# Altium integrated library ON Semi MOSFETs.IntLib: 1097 symbols (part 7 of 26)
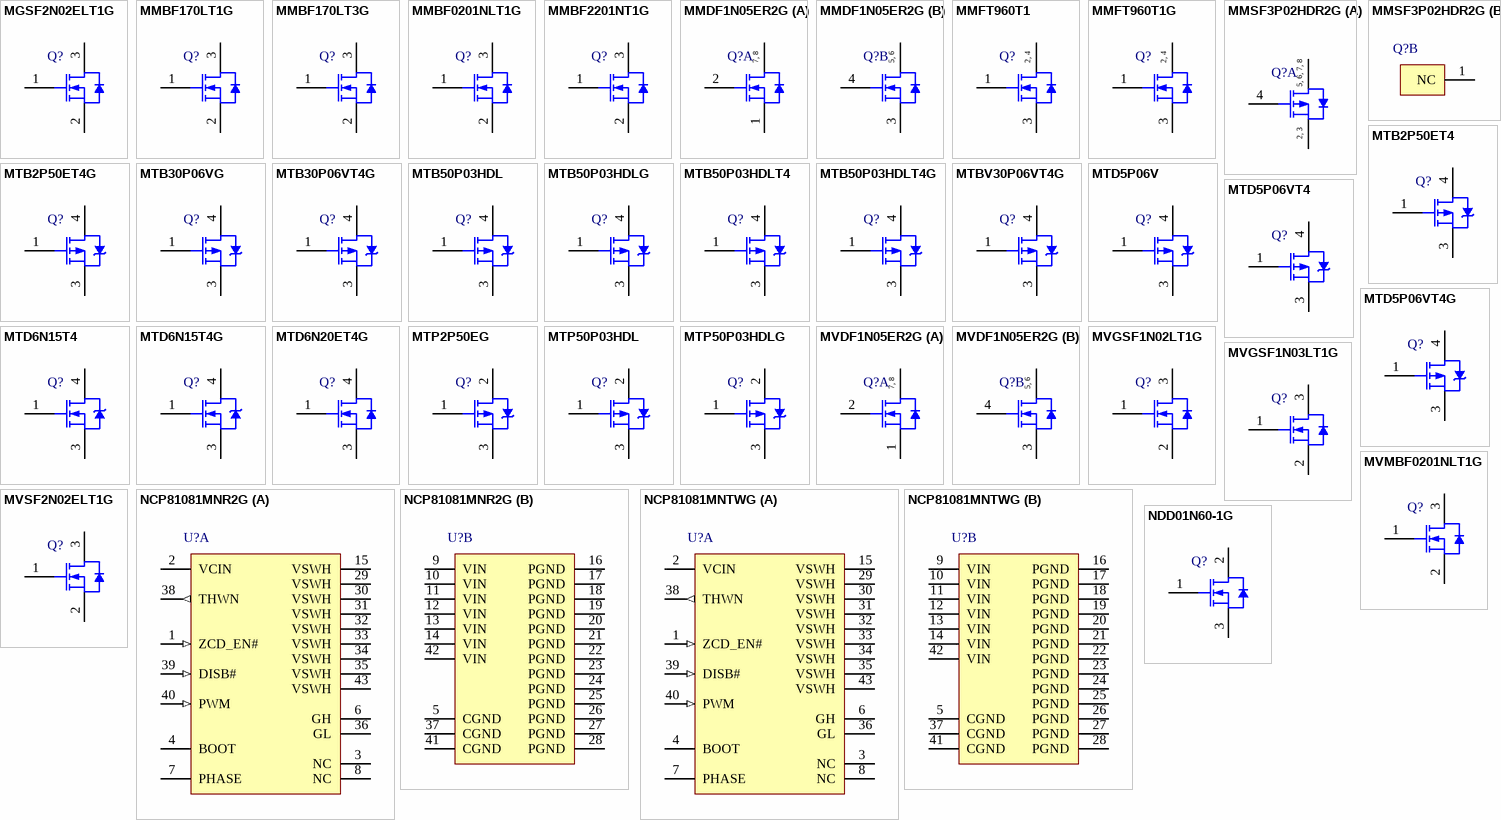
[diagram p37: symbols MGSF2N02ELT1G to NDD01N60-1G]

## MGSF2N02ELT1G
designator Q?
Power MOSFET, 2.8 A, 20 V, N-Channel, 3-Pin SOT-23, Pb-Free, Tape and Reel; Manufacturer: On Semiconductor; PartNumber: MGSF2N02ELT1G; Channel Polarity: N Channel; Ciss Typ (pF): 150; Configuration: Single; Coss Typ (pF): 130; Crss Typ (pF): 45; ID Max (A): 2.8; PD Max (W): 1.25; Qrr Typ (nC): 200; V(BR)DSS Min (V): 20; VGS Max (V): 8; VGS(th) Max (V): 1; DatasheetVersion: Rev. 3; PackageVersion: Rev. AP, 11/2009; PackageReference: SOT-23-3-318-08; PackageDescription: 3-Pin Small Outline Transistor, Body 2.92 x 1.3 mm, Pitch 0.95 mm; Supplier 1: Digi-Key; Supplier Part Number 1: MGSF2N02ELT1GOSTR-ND; Supplier 2: Digi-Key; Supplier Part Number 2: MGSF2N02ELT1GOSCT-ND; Supplier 3: Digi-Key; Supplier Part Number 3: MGSF2N02ELT1GOSDKR-ND; Supplier 4: Farnell; Supplier Part Number 4: 1453618; Supplier 5: Farnell; Supplier Part Number 5: 1453618RL; Supplier 6: Newark; Supplier Part Number 6: 83H7320; Supplier 7: Newark; Supplier Part Number 7: 09R9428; Supplier 8: Mouser; Supplier Part Number 8: 863-MGSF2N02ELT1G; Package Type: SOT-23-3; Packing: Tape and Reel; RoHS: Pb-Free; Mounting Technology: Surface Mount; ComponentLink1Description: Manufacturer URL; ComponentLink1URL: http://www.onsemi.com/; ComponentLink2Description: Datasheet; ComponentLink2URL: http://www.onsemi.cn/pub_link/Collateral/MGSF2N02EL-D.PDF; ComponentLink3Description: Package Specification; ComponentLink3URL: http://www.onsemi.cn/pub_link/Collateral/318-08.PDF
footprint ONSC-SOT-23-3-318-08_V (SOT23, 3-Leads, Body 2.92x1.3mm, Pitch 0.95mm)
pins: 1 G, 2 S, 3 D

## MMBF170LT1G
designator Q?
Power MOSFET, 500 mA, 60 V, N-Channel, 3-Pin SOT-23, Pb-Free, Tape and Reel; Manufacturer: On Semiconductor; PartNumber: MMBF170LT1G; Channel Polarity: N Channel; Configuration: Single; ID Max (A): 0.5; PD Max (W): 0.225; V(BR)DSS Min (V): 60; VGS Max (V): 20; VGS(th) Max (V): 3; DatasheetVersion: Rev. 9; PackageVersion: Rev. AP, 11/2009; PackageReference: SOT-23-3-318-08; PackageDescription: 3-Pin Small Outline Transistor, Body 2.92 x 1.3 mm, Pitch 0.95 mm; Supplier 1: Digi-Key; Supplier Part Number 1: MMBF170LT1GOSTR-ND; Supplier 2: Digi-Key; Supplier Part Number 2: MMBF170LT1GOSCT-ND; Supplier 3: Digi-Key; Supplier Part Number 3: MMBF170LT1GOSDKR-ND; Supplier 4: Farnell; Supplier Part Number 4: 1431321RL; Supplier 5: Farnell; Supplier Part Number 5: 1431321; Supplier 6: Newark; Supplier Part Number 6: 31M8850; Supplier 7: Newark; Supplier Part Number 7: 88H4781; Supplier 8: Mouser; Supplier Part Number 8: 863-MMBF170LT1G; Package Type: SOT-23-3; Packing: Tape and Reel; RoHS: Pb-Free; Mounting Technology: Surface Mount; ComponentLink1Description: Manufacturer URL; ComponentLink1URL: http://www.onsemi.com/; ComponentLink2Description: Datasheet; ComponentLink2URL: http://www.onsemi.cn/pub_link/Collateral/MMBF170LT1-D.PDF; ComponentLink3Description: Package Specification; ComponentLink3URL: http://www.onsemi.cn/pub_link/Collateral/318-08.PDF
footprint ONSC-SOT-23-3-318-08_V (SOT23, 3-Leads, Body 2.92x1.3mm, Pitch 0.95mm)
pins: 1 G, 2 S, 3 D

## MMBF170LT3G
designator Q?
Power MOSFET, 500 mA, 60 V, N-Channel, 3-Pin SOT-23, Pb-Free, Tape and Reel; Manufacturer: On Semiconductor; PartNumber: MMBF170LT3G; Channel Polarity: N Channel; Configuration: Single; ID Max (A): 0.5; PD Max (W): 0.225; V(BR)DSS Min (V): 60; VGS Max (V): 20; VGS(th) Max (V): 3; DatasheetVersion: Rev. 9; PackageVersion: Rev. AP, 11/2009; PackageReference: SOT-23-3-318-08; PackageDescription: 3-Pin Small Outline Transistor, Body 2.92 x 1.3 mm, Pitch 0.95 mm; Supplier 1: Digi-Key; Supplier Part Number 1: MMBF170LT3GOSTR-ND; Supplier 2: Digi-Key; Supplier Part Number 2: MMBF170LT3GOSCT-ND; Supplier 3: Mouser; Supplier Part Number 3: 863-MMBF170LT3G; Package Type: SOT-23-3; Packing: Tape and Reel; RoHS: Pb-Free; Mounting Technology: Surface Mount; ComponentLink1Description: Manufacturer URL; ComponentLink1URL: http://www.onsemi.com/; ComponentLink2Description: Datasheet; ComponentLink2URL: http://www.onsemi.cn/pub_link/Collateral/MMBF170LT1-D.PDF; ComponentLink3Description: Package Specification; ComponentLink3URL: http://www.onsemi.cn/pub_link/Collateral/318-08.PDF
footprint ONSC-SOT-23-3-318-08_V (SOT23, 3-Leads, Body 2.92x1.3mm, Pitch 0.95mm)
pins: 1 G, 2 S, 3 D

## MMBF0201NLT1G
designator Q?
Power MOSFET, 300 mA, 20 V, N-Channel, 3-Pin SOT-23, Pb-Free, Tape and Reel; Manufacturer: On Semiconductor; PartNumber: MMBF0201NLT1G; Channel Polarity: N Channel; Ciss Typ (pF): 45; Configuration: Single; Coss Typ (pF): 25; Crss Typ (pF): 5; PD Max (W): 0.225; V(BR)DSS Min (V): 20; VGS(th) Max (V): 2.4; DatasheetVersion: Rev. 5; PackageVersion: Rev. AP, 11/2009; PackageReference: SOT-23-3-318-08; PackageDescription: 3-Pin Small Outline Transistor, Body 2.92 x 1.3 mm, Pitch 0.95 mm; Supplier 1: Digi-Key; Supplier Part Number 1: MMBF0201NLT1GOSTR-ND; Supplier 2: Digi-Key; Supplier Part Number 2: MMBF0201NLT1GOSCT-ND; Supplier 3: Digi-Key; Supplier Part Number 3: MMBF0201NLT1GOSDKR-ND; Supplier 4: Farnell; Supplier Part Number 4: 2317893; Supplier 5: Newark; Supplier Part Number 5: 88H4779; Supplier 6: Newark; Supplier Part Number 6: 85W3163; Supplier 7: Mouser; Supplier Part Number 7: 863-MMBF0201NLT1G; Package Type: SOT-23-3; Packing: Tape and Reel; RoHS: Pb-Free; VGS Max (V): 20; Mounting Technology: Surface Mount; ComponentLink1Description: Manufacturer URL; ComponentLink1URL: http://www.onsemi.com/; ComponentLink2Description: Datasheet; ComponentLink2URL: http://www.onsemi.cn/pub_link/Collateral/MMBF0201NLT1-D.PDF; ComponentLink3Description: Package Specification; ComponentLink3URL: http://www.onsemi.cn/pub_link/Collateral/318-08.PDF
footprint ONSC-SOT-23-3-318-08_V (SOT23, 3-Leads, Body 2.92x1.3mm, Pitch 0.95mm)
pins: 1 G, 2 S, 3 D

## MMBF2201NT1G
designator Q?
Power MOSFET, 300 mA, 20 V, N-Channel, 3-Pin SOT-323, Pb-Free, Tape and Reel; Manufacturer: On Semiconductor; PartNumber: MMBF2201NT1G; Channel Polarity: N Channel; Ciss Typ (pF): 45; Configuration: Single; Coss Typ (pF): 25; Crss Typ (pF): 5; PD Max (W): 0.15; V(BR)DSS Min (V): 20; VGS(th) Max (V): 2.4; DatasheetVersion: Rev. 7; PackageVersion: Rev. N, 11/2008; PackageReference: SOT-323-3-419-04; PackageDescription: 3-Pin Small Outline Transistor, Body 2 x 1.25 mm, Pitch 0.65 mm; Supplier 1: Digi-Key; Supplier Part Number 1: MMBF2201NT1GOSTR-ND; Supplier 2: Digi-Key; Supplier Part Number 2: MMBF2201NT1GOSCT-ND; Supplier 3: Digi-Key; Supplier Part Number 3: MMBF2201NT1GOSDKR-ND; Supplier 4: Farnell; Supplier Part Number 4: 1453615; Supplier 5: Farnell; Supplier Part Number 5: 1453615RL; Supplier 6: Newark; Supplier Part Number 6: 88H4782; Supplier 7: Newark; Supplier Part Number 7: 01P0394; Supplier 8: Mouser; Supplier Part Number 8: 863-MMBF2201NT1G; Package Type: SC-70-3 / SOT-323-3; Packing: Tape and Reel; RoHS: Pb-Free; VGS Max (V): 20; Mounting Technology: Surface Mount; ComponentLink1Description: Manufacturer URL; ComponentLink1URL: http://www.onsemi.com/; ComponentLink2Description: Datasheet; ComponentLink2URL: http://www.onsemi.cn/pub_link/Collateral/MMBF2201NT1-D.PDF; ComponentLink3Description: Package Specification; ComponentLink3URL: http://www.onsemi.com/pub_link/Collateral/419-04.PDF
footprint ONSC-SOT-323-3-419-04_V (SOT23, 3-Leads, Body 2x1.25mm, Pitch 0.65mm)
pins: 1 G, 2 S, 3 D

## MMDF1N05ER2G
designator Q?
Power MOSFET, 2 A, 50 V, N-Channel, 8-Pin SOIC, Pb-Free, Tape and Reel; Manufacturer: On Semiconductor; PartNumber: MMDF1N05ER2G; Channel Polarity: N Channel; Ciss Typ (pF): 330; Configuration: Dual; Coss Typ (pF): 160; Crss Typ (pF): 50; ID Max (A): 2; VGS Max (V): 20; VGS(th) Max (V): 3; DatasheetVersion: Rev. 11; PackageVersion: Rev. AK, 02/2011; PackageReference: SOIC-8-751-07; PackageDescription: 8-Pin Small Outline Integrated Circuit, Body 4.9 x 3.9 mm, Pitch 1.27 mm; Package Type: SOIC-8; Packing: Tape and Reel; PD Max (W): 2; RoHS: Pb-Free; V(BR)DSS Min (V): 50; Mounting Technology: Surface Mount; ComponentLink1Description: Manufacturer URL; ComponentLink1URL: http://www.onsemi.com/; ComponentLink2Description: Datasheet; ComponentLink2URL: http://www.onsemi.cn/pub_link/Collateral/MMDF1N05E-D.PDF; ComponentLink3Description: Package Specification; ComponentLink3URL: http://www.onsemi.com/pub_link/Collateral/751-07.PDF
footprint ONSC-SOIC-8-751-07_V (SOIC, 8-Leads, Body 4.9x3.9mm, Pitch 1.27mm)
part A pins: 1 S1, 2 G1, 7 D1, 8 D1
part B pins: 3 S2, 4 G2, 5 D2, 6 D2
part A text: 7, 8
part B text: 5, 6

## MMFT960T1
designator Q?
Power MOSFET, 300 mA, 60 V, N-Channel, 4-Pin SOT-223, Tape and Reel; Manufacturer: On Semiconductor; PartNumber: MMFT960T1; Channel Polarity: N Channel; Ciss Typ (pF): 65; Configuration: Single; Coss Typ (pF): 33; Crss Typ (pF): 7; ID Max (A): 0.3; PD Max (W): 0.8; V(BR)DSS Min (V): 60; VGS Max (V): 30; VGS(th) Max (V): 3.5; DatasheetVersion: Rev. 5; PackageVersion: Rev. N, 08/2009; PackageReference: SOT-223-4-318E-04; PackageDescription: 4-Pin Small Outline Transistor, Body 6.5 x 3.5 mm, Pitch 2.3 mm; Package Type: SOT-223-4 / TO-261-4; Packing: Tape and Reel; Mounting Technology: Surface Mount; ComponentLink1Description: Manufacturer URL; ComponentLink1URL: http://www.onsemi.com/; ComponentLink2Description: Datasheet; ComponentLink2URL: http://www.onsemi.cn/pub_link/Collateral/MMFT960T1-D.PDF; ComponentLink3Description: Package Specification; ComponentLink3URL: http://www.onsemi.com/pub_link/Collateral/318E-04.PDF
footprint ONSC-SOT-223-4-318E-04_V (SOT223, 4-Leads, Body 6.5x3.5mm, Pitch 2.3mm)
pins: 1 G, 2 D, 3 S, 4 D
text: 2, 4

## MMFT960T1G
designator Q?
Power MOSFET, 300 mA, 60 V, N-Channel, 4-Pin SOT-223, Pb-Free, Tape and Reel; Manufacturer: On Semiconductor; PartNumber: MMFT960T1G; Channel Polarity: N Channel; Ciss Typ (pF): 65; Configuration: Single; Coss Typ (pF): 33; Crss Typ (pF): 7; ID Max (A): 0.3; PD Max (W): 0.8; V(BR)DSS Min (V): 60; VGS Max (V): 30; VGS(th) Max (V): 3.5; DatasheetVersion: Rev. 5; PackageVersion: Rev. N, 08/2009; PackageReference: SOT-223-4-318E-04; PackageDescription: 4-Pin Small Outline Transistor, Body 6.5 x 3.5 mm, Pitch 2.3 mm; Package Type: SOT-223-4 / TO-261-4; Packing: Tape and Reel; RoHS: Pb-Free; Mounting Technology: Surface Mount; ComponentLink1Description: Manufacturer URL; ComponentLink1URL: http://www.onsemi.com/; ComponentLink2Description: Datasheet; ComponentLink2URL: http://www.onsemi.cn/pub_link/Collateral/MMFT960T1-D.PDF; ComponentLink3Description: Package Specification; ComponentLink3URL: http://www.onsemi.com/pub_link/Collateral/318E-04.PDF
footprint ONSC-SOT-223-4-318E-04_V (SOT223, 4-Leads, Body 6.5x3.5mm, Pitch 2.3mm)
pins: 1 G, 2 D, 3 S, 4 D
text: 2, 4

## MMSF3P02HDR2G
designator Q?
Power MOSFET, 3 A, 20 V, P-Channel, 8-Pin SOIC, Pb-Free, Tape and Reel; Manufacturer: On Semiconductor; PartNumber: MMSF3P02HDR2G; Channel Polarity: P Channel; Ciss Typ (pF): 1010; Configuration: Single; Coss Typ (pF): 740; Crss Typ (pF): 260; PD Max (W): 2.5; Qrr Typ (nC): 133; V(BR)DSS Min (V): 20; VGS(th) Max (V): 2; DatasheetVersion: Rev. 8; PackageVersion: Rev. AK, 02/2011; PackageReference: SOIC-8-751-07; PackageDescription: 8-Pin Small Outline Integrated Circuit, Body 4.9 x 3.9 mm, Pitch 1.27 mm; Package Type: SOIC-8; Packing: Tape and Reel; RoHS: Pb-Free; VGS Max (V): 20; Mounting Technology: Surface Mount; ComponentLink1Description: Manufacturer URL; ComponentLink1URL: http://www.onsemi.com/; ComponentLink2Description: Datasheet; ComponentLink2URL: http://www.onsemi.cn/pub_link/Collateral/MMSF3P02HD-D.PDF; ComponentLink3Description: Package Specification; ComponentLink3URL: http://www.onsemi.com/pub_link/Collateral/751-07.PDF
footprint ONSC-SOIC-8-751-07_V (SOIC, 8-Leads, Body 4.9x3.9mm, Pitch 1.27mm)
part A pins: 2 S, 3 S, 4 G, 5 D, 6 D, 7 D, 8 D
part B pins: 1 NC
part A text: 5, 6, 7, 8; 2, 3

## MTB2P50ET4
designator Q?
Power MOSFET, 2 A, 500 V, P-Channel, 3-Pin D2PAK, Tape and Reel; Manufacturer: On Semiconductor; PartNumber: MTB2P50ET4; Channel Polarity: P Channel; Ciss Typ (pF): 845; Configuration: Single; Coss Typ (pF): 100; Crss Typ (pF): 26; Qrr Typ (nC): 1920; V(BR)DSS Min (V): 500; VGS Max (V): 20; VGS(th) Max (V): 4; DatasheetVersion: Rev. 4; PackageVersion: Rev. K, 09/2008; PackageReference: D2PAK-3-418B-04; PackageDescription: 3-Pin Flange Mount, Body 9.145 x 9.97 mm, Pitch 2.54 mm; Package Type: D2PAK-3; Packing: Tape and Reel; Mounting Technology: Surface Mount; ComponentLink1Description: Manufacturer URL; ComponentLink1URL: http://www.onsemi.com/; ComponentLink2Description: Datasheet; ComponentLink2URL: http://www.onsemi.cn/pub_link/Collateral/MTB2P50E-D.PDF; ComponentLink3Description: Package Specification; ComponentLink3URL: http://www.onsemi.com/pub_link/Collateral/418B-04.PDF
footprint ONSC-D2PAK-3-418B-04_V (DPAK, 3-Leads, Body 9.97x9.145mm, Pitch 2.54mm)
pins: 1 G, 3 S, 4 D

## MTB2P50ET4G
designator Q?
Power MOSFET, 2 A, 500 V, P-Channel, 3-Pin D2PAK, Pb-Free, Tape and Reel; Manufacturer: On Semiconductor; PartNumber: MTB2P50ET4G; Channel Polarity: P Channel; Ciss Typ (pF): 845; Configuration: Single; Coss Typ (pF): 100; Crss Typ (pF): 26; Qrr Typ (nC): 1920; V(BR)DSS Min (V): 500; VGS Max (V): 20; VGS(th) Max (V): 4; DatasheetVersion: Rev. 4; PackageVersion: Rev. K, 09/2008; PackageReference: D2PAK-3-418B-04; PackageDescription: 3-Pin Flange Mount, Body 9.145 x 9.97 mm, Pitch 2.54 mm; Package Type: D2PAK-3; Packing: Tape and Reel; RoHS: Pb-Free; Mounting Technology: Surface Mount; ComponentLink1Description: Manufacturer URL; ComponentLink1URL: http://www.onsemi.com/; ComponentLink2Description: Datasheet; ComponentLink2URL: http://www.onsemi.cn/pub_link/Collateral/MTB2P50E-D.PDF; ComponentLink3Description: Package Specification; ComponentLink3URL: http://www.onsemi.com/pub_link/Collateral/418B-04.PDF
footprint ONSC-D2PAK-3-418B-04_V (DPAK, 3-Leads, Body 9.97x9.145mm, Pitch 2.54mm)
pins: 1 G, 3 S, 4 D

## MTB30P06VG
designator Q?
Power MOSFET, 30 A, 60 V, P-Channel, 3-Pin D2PAK, Pb-Free, Tube; Manufacturer: On Semiconductor; PartNumber: MTB30P06VG; Channel Polarity: P Channel; Ciss Typ (pF): 1562; Configuration: Single; Coss Typ (pF): 524; Crss Typ (pF): 154; Qrr Typ (nC): 965; V(BR)DSS Min (V): 60; VGS Max (V): 15; VGS(th) Max (V): 4; DatasheetVersion: Rev. 5; PackageVersion: Rev. K, 09/2008; PackageReference: D2PAK-3-418B-04; PackageDescription: 3-Pin Flange Mount, Body 9.145 x 9.97 mm, Pitch 2.54 mm; Package Type: D2PAK-3; Packing: Tube; RoHS: Pb-Free; Mounting Technology: Surface Mount; ComponentLink1Description: Manufacturer URL; ComponentLink1URL: http://www.onsemi.com/; ComponentLink2Description: Datasheet; ComponentLink2URL: http://www.onsemi.cn/pub_link/Collateral/MTB30P06V-D.PDF; ComponentLink3Description: Package Specification; ComponentLink3URL: http://www.onsemi.com/pub_link/Collateral/418B-04.PDF
footprint ONSC-D2PAK-3-418B-04_V (DPAK, 3-Leads, Body 9.97x9.145mm, Pitch 2.54mm)
pins: 1 G, 3 S, 4 D

## MTB30P06VT4G
designator Q?
Power MOSFET, 30 A, 60 V, P-Channel, 3-Pin D2PAK, Pb-Free, Tape and Reel; Manufacturer: On Semiconductor; PartNumber: MTB30P06VT4G; Channel Polarity: P Channel; Ciss Typ (pF): 1562; Configuration: Single; Coss Typ (pF): 524; Crss Typ (pF): 154; Qrr Typ (nC): 965; V(BR)DSS Min (V): 60; VGS Max (V): 15; VGS(th) Max (V): 4; DatasheetVersion: Rev. 5; PackageVersion: Rev. K, 09/2008; PackageReference: D2PAK-3-418B-04; PackageDescription: 3-Pin Flange Mount, Body 9.145 x 9.97 mm, Pitch 2.54 mm; Package Type: D2PAK-3; Packing: Tape and Reel; RoHS: Pb-Free; Mounting Technology: Surface Mount; ComponentLink1Description: Manufacturer URL; ComponentLink1URL: http://www.onsemi.com/; ComponentLink2Description: Datasheet; ComponentLink2URL: http://www.onsemi.cn/pub_link/Collateral/MTB30P06V-D.PDF; ComponentLink3Description: Package Specification; ComponentLink3URL: http://www.onsemi.com/pub_link/Collateral/418B-04.PDF
footprint ONSC-D2PAK-3-418B-04_V (DPAK, 3-Leads, Body 9.97x9.145mm, Pitch 2.54mm)
pins: 1 G, 3 S, 4 D

## MTB50P03HDL
designator Q?
Power MOSFET, 50 A, 30 V, Logic Level, P-Channel, 3-Pin D2PAK, Tube; Manufacturer: On Semiconductor; PartNumber: MTB50P03HDL; Channel Polarity: P Channel; Ciss Typ (pF): 3500; Configuration: Single; Coss Typ (pF): 1550; Crss Typ (pF): 550; Qrr Typ (nC): 246; V(BR)DSS Min (V): 30; VGS Max (V): 15; VGS(th) Max (V): 2; DatasheetVersion: Rev. 6; PackageVersion: Rev. K, 09/2008; PackageReference: D2PAK-3-418B-04; PackageDescription: 3-Pin Flange Mount, Body 9.145 x 9.97 mm, Pitch 2.54 mm; Package Type: D2PAK-3; Packing: Tube; Mounting Technology: Surface Mount; ComponentLink1Description: Manufacturer URL; ComponentLink1URL: http://www.onsemi.com/; ComponentLink2Description: Datasheet; ComponentLink2URL: http://www.onsemi.cn/pub_link/Collateral/MTB50P03HDL-D.PDF; ComponentLink3Description: Package Specification; ComponentLink3URL: http://www.onsemi.com/pub_link/Collateral/418B-04.PDF
footprint ONSC-D2PAK-3-418B-04_V (DPAK, 3-Leads, Body 9.97x9.145mm, Pitch 2.54mm)
pins: 1 G, 3 S, 4 D

## MTB50P03HDLG
designator Q?
Power MOSFET, 50 A, 30 V, Logic Level, P-Channel, 3-Pin D2PAK, Pb-Free, Tube; Manufacturer: On Semiconductor; PartNumber: MTB50P03HDLG; Channel Polarity: P Channel; Ciss Typ (pF): 3500; Configuration: Single; Coss Typ (pF): 1550; Crss Typ (pF): 550; Qrr Typ (nC): 246; V(BR)DSS Min (V): 30; VGS Max (V): 15; VGS(th) Max (V): 2; DatasheetVersion: Rev. 6; PackageVersion: Rev. K, 09/2008; PackageReference: D2PAK-3-418B-04; PackageDescription: 3-Pin Flange Mount, Body 9.145 x 9.97 mm, Pitch 2.54 mm; Package Type: D2PAK-3; Packing: Tube; RoHS: Pb-Free; Mounting Technology: Surface Mount; ComponentLink1Description: Manufacturer URL; ComponentLink1URL: http://www.onsemi.com/; ComponentLink2Description: Datasheet; ComponentLink2URL: http://www.onsemi.cn/pub_link/Collateral/MTB50P03HDL-D.PDF; ComponentLink3Description: Package Specification; ComponentLink3URL: http://www.onsemi.com/pub_link/Collateral/418B-04.PDF
footprint ONSC-D2PAK-3-418B-04_V (DPAK, 3-Leads, Body 9.97x9.145mm, Pitch 2.54mm)
pins: 1 G, 3 S, 4 D

## MTB50P03HDLT4
designator Q?
Power MOSFET, 50 A, 30 V, Logic Level, P-Channel, 3-Pin D2PAK, Tape and Reel; Manufacturer: On Semiconductor; PartNumber: MTB50P03HDLT4; Channel Polarity: P Channel; Ciss Typ (pF): 3500; Configuration: Single; Coss Typ (pF): 1550; Crss Typ (pF): 550; Qrr Typ (nC): 246; V(BR)DSS Min (V): 30; VGS Max (V): 15; VGS(th) Max (V): 2; DatasheetVersion: Rev. 6; PackageVersion: Rev. K, 09/2008; PackageReference: D2PAK-3-418B-04; PackageDescription: 3-Pin Flange Mount, Body 9.145 x 9.97 mm, Pitch 2.54 mm; Package Type: D2PAK-3; Packing: Tape and Reel; Mounting Technology: Surface Mount; ComponentLink1Description: Manufacturer URL; ComponentLink1URL: http://www.onsemi.com/; ComponentLink2Description: Datasheet; ComponentLink2URL: http://www.onsemi.cn/pub_link/Collateral/MTB50P03HDL-D.PDF; ComponentLink3Description: Package Specification; ComponentLink3URL: http://www.onsemi.com/pub_link/Collateral/418B-04.PDF
footprint ONSC-D2PAK-3-418B-04_V (DPAK, 3-Leads, Body 9.97x9.145mm, Pitch 2.54mm)
pins: 1 G, 3 S, 4 D

## MTB50P03HDLT4G
designator Q?
Power MOSFET, 50 A, 30 V, Logic Level, P-Channel, 3-Pin D2PAK, Pb-Free, Tape and Reel; Manufacturer: On Semiconductor; PartNumber: MTB50P03HDLT4G; Channel Polarity: P Channel; Ciss Typ (pF): 3500; Configuration: Single; Coss Typ (pF): 1550; Crss Typ (pF): 550; Qrr Typ (nC): 246; V(BR)DSS Min (V): 30; VGS Max (V): 15; VGS(th) Max (V): 2; DatasheetVersion: Rev. 6; PackageVersion: Rev. K, 09/2008; PackageReference: D2PAK-3-418B-04; PackageDescription: 3-Pin Flange Mount, Body 9.145 x 9.97 mm, Pitch 2.54 mm; Package Type: D2PAK-3; Packing: Tape and Reel; RoHS: Pb-Free; Mounting Technology: Surface Mount; ComponentLink1Description: Manufacturer URL; ComponentLink1URL: http://www.onsemi.com/; ComponentLink2Description: Datasheet; ComponentLink2URL: http://www.onsemi.cn/pub_link/Collateral/MTB50P03HDL-D.PDF; ComponentLink3Description: Package Specification; ComponentLink3URL: http://www.onsemi.com/pub_link/Collateral/418B-04.PDF
footprint ONSC-D2PAK-3-418B-04_V (DPAK, 3-Leads, Body 9.97x9.145mm, Pitch 2.54mm)
pins: 1 G, 3 S, 4 D

## MTBV30P06VT4G
designator Q?
Power MOSFET, 30 A, 60 V, P-Channel, 3-Pin D2PAK, Pb-Free, Tape and Reel; Manufacturer: On Semiconductor; PartNumber: MTBV30P06VT4G; Channel Polarity: P Channel; Ciss Typ (pF): 1562; Configuration: Single; Coss Typ (pF): 524; Crss Typ (pF): 154; Qrr Typ (nC): 965; V(BR)DSS Min (V): 60; VGS Max (V): 15; VGS(th) Max (V): 4; DatasheetVersion: Rev. 5; PackageVersion: Rev. K, 09/2008; PackageReference: D2PAK-3-418B-04; PackageDescription: 3-Pin Flange Mount, Body 9.145 x 9.97 mm, Pitch 2.54 mm; Package Type: D2PAK-3; Packing: Tape and Reel; RoHS: Pb-Free; Mounting Technology: Surface Mount; ComponentLink1Description: Manufacturer URL; ComponentLink1URL: http://www.onsemi.com/; ComponentLink2Description: Datasheet; ComponentLink2URL: http://www.onsemi.cn/pub_link/Collateral/MTB30P06V-D.PDF; ComponentLink3Description: Package Specification; ComponentLink3URL: http://www.onsemi.com/pub_link/Collateral/418B-04.PDF
footprint ONSC-D2PAK-3-418B-04_V (DPAK, 3-Leads, Body 9.97x9.145mm, Pitch 2.54mm)
pins: 1 G, 3 S, 4 D

## MTD5P06V
designator Q?
Power MOSFET, 5 A, 60 V P-Channel, 3-Pin DPAK, Tube; Manufacturer: On Semiconductor; PartNumber: MTD5P06V; Channel Polarity: P Channel; Ciss Typ (pF): 367; Configuration: Single; Coss Typ (pF): 140; Crss Typ (pF): 29; ID Max (A): 5; Qrr Typ (nC): 420; V(BR)DSS Min (V): 60; VGS Max (V): 15; VGS(th) Max (V): 4; DatasheetVersion: Rev. 6; PackageVersion: Rev. E, 02/2014; PackageReference: DPAK-3-369C-01; PackageDescription: 3-Pin Flange Mount, Body 6.54 x 6.095 mm, Pitch 2.29 mm; Package Type: DPAK-3; Packing: Tube; Mounting Technology: Surface Mount; ComponentLink1Description: Manufacturer URL; ComponentLink1URL: http://www.onsemi.com/; ComponentLink2Description: Datasheet; ComponentLink2URL: http://www.onsemi.cn/pub_link/Collateral/MTD5P06V-D.PDF; ComponentLink3Description: Package Specification; ComponentLink3URL: http://www.onsemi.cn/pub_link/Collateral/369C.PDF
footprint ONSC-DPAK-3-369C-01_V (DPAK, 3-Leads, Body 6.54x6.095mm, Pitch 2.29mm)
pins: 1 G, 3 S, 4 D

## MTD5P06VT4
designator Q?
Power MOSFET, 5 A, 60 V P-Channel, 3-Pin DPAK, Tape and Reel; Manufacturer: On Semiconductor; PartNumber: MTD5P06VT4; Channel Polarity: P Channel; Ciss Typ (pF): 367; Configuration: Single; Coss Typ (pF): 140; Crss Typ (pF): 29; ID Max (A): 5; Qrr Typ (nC): 420; V(BR)DSS Min (V): 60; VGS Max (V): 15; VGS(th) Max (V): 4; DatasheetVersion: Rev. 6; PackageVersion: Rev. E, 02/2014; PackageReference: DPAK-3-369C-01; PackageDescription: 3-Pin Flange Mount, Body 6.54 x 6.095 mm, Pitch 2.29 mm; Package Type: DPAK-3; Packing: Tape and Reel; Mounting Technology: Surface Mount; ComponentLink1Description: Manufacturer URL; ComponentLink1URL: http://www.onsemi.com/; ComponentLink2Description: Datasheet; ComponentLink2URL: http://www.onsemi.cn/pub_link/Collateral/MTD5P06V-D.PDF; ComponentLink3Description: Package Specification; ComponentLink3URL: http://www.onsemi.cn/pub_link/Collateral/369C.PDF
footprint ONSC-DPAK-3-369C-01_V (DPAK, 3-Leads, Body 6.54x6.095mm, Pitch 2.29mm)
pins: 1 G, 3 S, 4 D

## MTD5P06VT4G
designator Q?
Power MOSFET, 5 A, 60 V P-Channel, 3-Pin DPAK, Pb-Free, Tape and Reel; Manufacturer: On Semiconductor; PartNumber: MTD5P06VT4G; Channel Polarity: P Channel; Ciss Typ (pF): 367; Configuration: Single; Coss Typ (pF): 140; Crss Typ (pF): 29; ID Max (A): 5; Qrr Typ (nC): 420; V(BR)DSS Min (V): 60; VGS Max (V): 15; VGS(th) Max (V): 4; DatasheetVersion: Rev. 6; PackageVersion: Rev. E, 02/2014; PackageReference: DPAK-3-369C-01; PackageDescription: 3-Pin Flange Mount, Body 6.54 x 6.095 mm, Pitch 2.29 mm; Package Type: DPAK-3; Packing: Tape and Reel; RoHS: Pb-Free; Mounting Technology: Surface Mount; ComponentLink1Description: Manufacturer URL; ComponentLink1URL: http://www.onsemi.com/; ComponentLink2Description: Datasheet; ComponentLink2URL: http://www.onsemi.cn/pub_link/Collateral/MTD5P06V-D.PDF; ComponentLink3Description: Package Specification; ComponentLink3URL: http://www.onsemi.cn/pub_link/Collateral/369C.PDF
footprint ONSC-DPAK-3-369C-01_V (DPAK, 3-Leads, Body 6.54x6.095mm, Pitch 2.29mm)
pins: 1 G, 3 S, 4 D

## MTD6N15T4
designator Q?
Power Field Effect Transistor, Surface Mount, N-Channel Enhancement-Mode Silicon Gate, 3-Pin DPAK, Tape and Reel; Manufacturer: On Semiconductor; PartNumber: MTD6N15T4; Channel Polarity: N Channel; Configuration: Single; ID Max (A): 6; V(BR)DSS Min (V): 150; VGS Max (V): 20; DatasheetVersion: Rev. 5; PackageVersion: Rev. E, 02/2014; PackageReference: DPAK-3-369C-01; PackageDescription: 3-Pin Flange Mount, Body 6.54 x 6.095 mm, Pitch 2.29 mm; Package Type: DPAK-3; Packing: Tape and Reel; Mounting Technology: Surface Mount; ComponentLink1Description: Manufacturer URL; ComponentLink1URL: http://www.onsemi.com/; ComponentLink2Description: Datasheet; ComponentLink2URL: http://www.onsemi.cn/pub_link/Collateral/MTD6N15-D.PDF; ComponentLink3Description: Package Specification; ComponentLink3URL: http://www.onsemi.cn/pub_link/Collateral/369C.PDF
footprint ONSC-DPAK-3-369C-01_V (DPAK, 3-Leads, Body 6.54x6.095mm, Pitch 2.29mm)
pins: 1 G, 3 S, 4 D

## MTD6N15T4G
designator Q?
Power Field Effect Transistor, Surface Mount, N-Channel Enhancement-Mode Silicon Gate, 3-Pin DPAK, Pb-Free, Tape and Reel; Manufacturer: On Semiconductor; PartNumber: MTD6N15T4G; Channel Polarity: N Channel; Configuration: Single; ID Max (A): 6; V(BR)DSS Min (V): 150; VGS Max (V): 20; DatasheetVersion: Rev. 5; PackageVersion: Rev. E, 02/2014; PackageReference: DPAK-3-369C-01; PackageDescription: 3-Pin Flange Mount, Body 6.54 x 6.095 mm, Pitch 2.29 mm; Package Type: DPAK-3; Packing: Tape and Reel; RoHS: Pb-Free; Mounting Technology: Surface Mount; ComponentLink1Description: Manufacturer URL; ComponentLink1URL: http://www.onsemi.com/; ComponentLink2Description: Datasheet; ComponentLink2URL: http://www.onsemi.cn/pub_link/Collateral/MTD6N15-D.PDF; ComponentLink3Description: Package Specification; ComponentLink3URL: http://www.onsemi.cn/pub_link/Collateral/369C.PDF
footprint ONSC-DPAK-3-369C-01_V (DPAK, 3-Leads, Body 6.54x6.095mm, Pitch 2.29mm)
pins: 1 G, 3 S, 4 D

## MTD6N20ET4G
designator Q?
Power MOSFET, 6 A, 200 V, N-Channel, 3-Pin DPAK, Pb-Free, Tape and Reel; Manufacturer: On Semiconductor; PartNumber: MTD6N20ET4G; Channel Polarity: N Channel; Ciss Typ (pF): 342; Configuration: Single; Coss Typ (pF): 92; Crss Typ (pF): 27; Qrr Typ (nC): 740; V(BR)DSS Min (V): 200; VGS Max (V): 20; VGS(th) Max (V): 4; DatasheetVersion: Rev. 6; PackageVersion: Rev. E, 02/2014; PackageReference: DPAK-3-369C-01; PackageDescription: 3-Pin Flange Mount, Body 6.54 x 6.095 mm, Pitch 2.29 mm; Package Type: DPAK-3; Packing: Tape and Reel; RoHS: Pb-Free; Mounting Technology: Surface Mount; ComponentLink1Description: Manufacturer URL; ComponentLink1URL: http://www.onsemi.com/; ComponentLink2Description: Datasheet; ComponentLink2URL: http://www.onsemi.cn/pub_link/Collateral/MTD6N20E-D.PDF; ComponentLink3Description: Package Specification; ComponentLink3URL: http://www.onsemi.cn/pub_link/Collateral/369C.PDF
footprint ONSC-DPAK-3-369C-01_V (DPAK, 3-Leads, Body 6.54x6.095mm, Pitch 2.29mm)
pins: 1 G, 3 S, 4 D

## MTP2P50EG
designator Q?
Power MOSFET, 2 A, 500 V, P-Channel, 3-Pin TO-220, Pb-Free, Tube; Manufacturer: On Semiconductor; PartNumber: MTP2P50EG; Channel Polarity: P Channel; Ciss Typ (pF): 845; Configuration: Single; Coss Typ (pF): 100; Crss Typ (pF): 26; PD Max (W): 75; Qrr Typ (nC): 1920; V(BR)DSS Min (V): 500; VGS Max (V): 20; VGS(th) Max (V): 4; DatasheetVersion: Rev. 6; PackageVersion: Rev. AF; PackageReference: TO-220-3-221A-09_AF; PackageDescription: 3-Pin Flange Mount, Vertical Straight Lead, Body 9.97 x 4.445 mm, Pitch 2.54 mm; Package Type: TO-220-3; Packing: Tube; RoHS: Pb-Free; Mounting Technology: Through Hole; ComponentLink1Description: Manufacturer URL; ComponentLink1URL: http://www.onsemi.com/; ComponentLink2Description: Datasheet; ComponentLink2URL: http://www.onsemi.cn/pub_link/Collateral/MTP2P50E-D.PDF; ComponentLink3Description: Package Specification; ComponentLink3URL: http://www.onsemi.cn/pub_link/Collateral/MCR8S-D.PDF
footprint ONSC-TO-220-3-221A-09_AF (FM, 3-Leads, Body 10.3x4.85mm, Pitch 2.54mm)
pins: 1 G, 2 D, 3 S

## MTP50P03HDL
designator Q?
Power MOSFET, 50 A, 30 V, Logic Level, P-Channel, 3-Pin TO-220, Tube; Manufacturer: On Semiconductor; PartNumber: MTP50P03HDL; Channel Polarity: P Channel; Ciss Typ (pF): 3500; Configuration: Single; Coss Typ (pF): 1500; Crss Typ (pF): 550; PD Max (W): 125; Qrr Typ (nC): 246; V(BR)DSS Min (V): 30; VGS Max (V): 15; VGS(th) Max (V): 2; DatasheetVersion: Rev. AB; PackageVersion: Rev. AB, 05/2006; PackageReference: TO-220-3-221A-09_AB; PackageDescription: 3-Pin Flange Mount, Vertical Straight Lead, Body 9.97 x 4.445 mm, Pitch 2.54 mm; Package Type: TO-220-3; Packing: Tube; Mounting Technology: Through Hole; ComponentLink1Description: Manufacturer URL; ComponentLink1URL: http://www.onsemi.com/; ComponentLink2Description: Datasheet; ComponentLink2URL: http://www.onsemi.cn/pub_link/Collateral/MTP50P03HDL-D.PDF; ComponentLink3Description: Package Specification; ComponentLink3URL: http://www.onsemi.cn/pub_link/Collateral/MTP50P03HDL-D.PDF
footprint ONSC-TO-220-3-221A-09_AB (FM, 3-Leads, Body 10.3x4.85mm, Pitch 2.54mm)
pins: 1 G, 2 D, 3 S

## MTP50P03HDLG
designator Q?
Power MOSFET, 50 A, 30 V, Logic Level, P-Channel, 3-Pin TO-220, Pb-Free, Tube; Manufacturer: On Semiconductor; PartNumber: MTP50P03HDLG; Channel Polarity: P Channel; Ciss Typ (pF): 3500; Configuration: Single; Coss Typ (pF): 1550; Crss Typ (pF): 550; PD Max (W): 125; Qrr Typ (nC): 246; V(BR)DSS Min (V): 30; VGS Max (V): 15; VGS(th) Max (V): 2; DatasheetVersion: Rev. AB; PackageVersion: Rev. AB, 05/2006; PackageReference: TO-220-3-221A-09_AB; PackageDescription: 3-Pin Flange Mount, Vertical Straight Lead, Body 9.97 x 4.445 mm, Pitch 2.54 mm; Package Type: TO-220-3; Packing: Tube; RoHS: Pb-Free; Mounting Technology: Through Hole; ComponentLink1Description: Manufacturer URL; ComponentLink1URL: http://www.onsemi.com/; ComponentLink2Description: Datasheet; ComponentLink2URL: http://www.onsemi.cn/pub_link/Collateral/MTP50P03HDL-D.PDF; ComponentLink3Description: Package Specification; ComponentLink3URL: http://www.onsemi.cn/pub_link/Collateral/MTP50P03HDL-D.PDF
footprint ONSC-TO-220-3-221A-09_AB (FM, 3-Leads, Body 10.3x4.85mm, Pitch 2.54mm)
pins: 1 G, 2 D, 3 S

## MVDF1N05ER2G
designator Q?
Power MOSFET, 2 A, 50 V, N-Channel, 8-Pin SOIC, Pb-Free, Tape and Reel; Manufacturer: On Semiconductor; PartNumber: MVDF1N05ER2G; Channel Polarity: N Channel; Ciss Typ (pF): 330; Configuration: Dual; Coss Typ (pF): 160; Crss Typ (pF): 50; ID Max (A): 2; VGS Max (V): 20; VGS(th) Max (V): 3; DatasheetVersion: Rev. 11; PackageVersion: Rev. AK, 02/2011; PackageReference: SOIC-8-751-07; PackageDescription: 8-Pin Small Outline Integrated Circuit, Body 4.9 x 3.9 mm, Pitch 1.27 mm; Package Type: SOIC-8; Packing: Tape and Reel; PD Max (W): 2; RoHS: Pb-Free; V(BR)DSS Min (V): 50; Mounting Technology: Surface Mount; ComponentLink1Description: Manufacturer URL; ComponentLink1URL: http://www.onsemi.com/; ComponentLink2Description: Datasheet; ComponentLink2URL: http://www.onsemi.cn/pub_link/Collateral/MMDF1N05E-D.PDF; ComponentLink3Description: Package Specification; ComponentLink3URL: http://www.onsemi.com/pub_link/Collateral/751-07.PDF
footprint ONSC-SOIC-8-751-07_V (SOIC, 8-Leads, Body 4.9x3.9mm, Pitch 1.27mm)
part A pins: 1 S1, 2 G1, 7 D1, 8 D1
part B pins: 3 S2, 4 G2, 5 D2, 6 D2
part A text: 7, 8
part B text: 5, 6

## MVGSF1N02LT1G
designator Q?
Power MOSFET, 750 mA, 20 V, N-Channel, 3-Pin SOT-23, Pb-Free, Tape and Reel; Manufacturer: On Semiconductor; PartNumber: MVGSF1N02LT1G; Channel Polarity: N Channel; Ciss Typ (pF): 125; Configuration: Single; Coss Typ (pF): 120; Crss Typ (pF): 45; ID Max (A): 0.75; PD Max (W): 0.4; V(BR)DSS Min (V): 20; VGS(th) Max (V): 2.4; DatasheetVersion: Rev. 6; PackageVersion: Rev. AP, 11/2009; PackageReference: SOT-23-3-318-08; PackageDescription: 3-Pin Small Outline Transistor, Body 2.92 x 1.3 mm, Pitch 0.95 mm; Supplier 1: Digi-Key; Supplier Part Number 1: MVGSF1N02LT1G-ND; Supplier 2: Mouser; Supplier Part Number 2: 863-MVGSF1N02LT1G; Package Type: SOT-23-3; Packing: Tape and Reel; RoHS: Pb-Free; VGS Max (V): 20; Mounting Technology: Surface Mount; ComponentLink1Description: Manufacturer URL; ComponentLink1URL: http://www.onsemi.com/; ComponentLink2Description: Datasheet; ComponentLink2URL: http://www.onsemi.cn/pub_link/Collateral/MGSF1N02LT1-D.PDF; ComponentLink3Description: Package Specification; ComponentLink3URL: http://www.onsemi.cn/pub_link/Collateral/318-08.PDF
footprint ONSC-SOT-23-3-318-08_V (SOT23, 3-Leads, Body 2.92x1.3mm, Pitch 0.95mm)
pins: 1 G, 2 S, 3 D

## MVGSF1N03LT1G
designator Q?
Power MOSFET, 30 V, 2.1 A, Single N-Channel, 3-Pin SOT-23, Pb-Free, Tape and Reel; Manufacturer: On Semiconductor; PartNumber: MVGSF1N03LT1G; Channel Polarity: N Channel; Ciss Typ (pF): 140; Coss Typ (pF): 100; Crss Typ (pF): 40; ID Max (A): 2.1; V(BR)DSS Min (V): 30; VGS Max (V): 20; VGS(th) Max (V): 2.4; DatasheetVersion: Rev. 10; PackageVersion: Rev. AP, 11/2009; PackageReference: SOT-23-3-318-08; PackageDescription: 3-Pin Small Outline Transistor, Body 2.92 x 1.3 mm, Pitch 0.95 mm; Supplier 1: Digi-Key; Supplier Part Number 1: MVGSF1N03LT1G-ND; Supplier 2: Mouser; Supplier Part Number 2: 863-MVGSF1N03LT1G; Configuration: Single; Package Type: SOT-23-3; Packing: Tape and Reel; RoHS: Pb-Free; Mounting Technology: Surface Mount; ComponentLink1Description: Manufacturer URL; ComponentLink1URL: http://www.onsemi.com/; ComponentLink2Description: Datasheet; ComponentLink2URL: http://www.onsemi.cn/pub_link/Collateral/MGSF1N03LT1-D.PDF; ComponentLink3Description: Package Specification; ComponentLink3URL: http://www.onsemi.cn/pub_link/Collateral/318-08.PDF
footprint ONSC-SOT-23-3-318-08_V (SOT23, 3-Leads, Body 2.92x1.3mm, Pitch 0.95mm)
pins: 1 G, 2 S, 3 D

## MVMBF0201NLT1G
designator Q?
Power MOSFET, 300 mA, 20 V, N-Channel, 3-Pin SOT-23, Pb-Free, Tape and Reel; Manufacturer: On Semiconductor; PartNumber: MVMBF0201NLT1G; Channel Polarity: N Channel; Ciss Typ (pF): 45; Configuration: Single; Coss Typ (pF): 25; Crss Typ (pF): 5; PD Max (W): 0.225; V(BR)DSS Min (V): 20; VGS(th) Max (V): 2.4; DatasheetVersion: Rev. 5; PackageVersion: Rev. AP, 11/2009; PackageReference: SOT-23-3-318-08; PackageDescription: 3-Pin Small Outline Transistor, Body 2.92 x 1.3 mm, Pitch 0.95 mm; Supplier 1: Digi-Key; Supplier Part Number 1: MVMBF0201NLT1G-ND; Supplier 2: Newark; Supplier Part Number 2: 76T6298; Supplier 3: Mouser; Supplier Part Number 3: 863-MVMBF0201NLT1G; Package Type: SOT-23-3; Packing: Tape and Reel; RoHS: Pb-Free; VGS Max (V): 20; Mounting Technology: Surface Mount; ComponentLink1Description: Manufacturer URL; ComponentLink1URL: http://www.onsemi.com/; ComponentLink2Description: Datasheet; ComponentLink2URL: http://www.onsemi.cn/pub_link/Collateral/MMBF0201NLT1-D.PDF; ComponentLink3Description: Package Specification; ComponentLink3URL: http://www.onsemi.cn/pub_link/Collateral/318-08.PDF
footprint ONSC-SOT-23-3-318-08_V (SOT23, 3-Leads, Body 2.92x1.3mm, Pitch 0.95mm)
pins: 1 G, 2 S, 3 D

## MVSF2N02ELT1G
designator Q?
Power MOSFET, 2.8 A, 20 V, N-Channel, 3-Pin SOT-23, Pb-Free, Tape and Reel; Manufacturer: On Semiconductor; PartNumber: MVSF2N02ELT1G; Channel Polarity: N Channel; Ciss Typ (pF): 150; Configuration: Single; Coss Typ (pF): 130; Crss Typ (pF): 45; ID Max (A): 2.8; PD Max (W): 1.25; Qrr Typ (nC): 200; V(BR)DSS Min (V): 20; VGS Max (V): 8; VGS(th) Max (V): 1; DatasheetVersion: Rev. 3; PackageVersion: Rev. AP, 11/2009; PackageReference: SOT-23-3-318-08; PackageDescription: 3-Pin Small Outline Transistor, Body 2.92 x 1.3 mm, Pitch 0.95 mm; Supplier 1: Newark; Supplier Part Number 1: 60W1660; Supplier 2: Mouser; Supplier Part Number 2: 863-MVSF2N02ELT1G; Package Type: SOT-23-3; Packing: Tape and Reel; RoHS: Pb-Free; Mounting Technology: Surface Mount; ComponentLink1Description: Manufacturer URL; ComponentLink1URL: http://www.onsemi.com/; ComponentLink2Description: Datasheet; ComponentLink2URL: http://www.onsemi.cn/pub_link/Collateral/MGSF2N02EL-D.PDF; ComponentLink3Description: Package Specification; ComponentLink3URL: http://www.onsemi.cn/pub_link/Collateral/318-08.PDF
footprint ONSC-SOT-23-3-318-08_V (SOT23, 3-Leads, Body 2.92x1.3mm, Pitch 0.95mm)
pins: 1 G, 2 S, 3 D

## NCP81081MNR2G
designator U?
Integrated Driver and MOSFET, 40-Pin QFN, Pb-Free, Tape and Reel; Manufacturer: On Semiconductor; PartNumber: NCP81081MNR2G; DatasheetVersion: Rev. 1; PackageVersion: Rev. O, 01/2009; PackageReference: QFN-40-485AZ-01; Package Type: QFN-40; Packing: Tape and Reel; RoHS: Pb-Free; Mounting Technology: Surface Mount; ComponentLink1Description: Manufacturer URL; ComponentLink1URL: http://www.onsemi.com/; ComponentLink2Description: Datasheet; ComponentLink2URL: http://www.onsemi.cn/pub_link/Collateral/NCP81081-D.PDF; ComponentLink3Description: Package Specification; ComponentLink3URL: http://www.onsemi.com/pub_link/Collateral/485AZ.PDF
footprint ONSC-QFN-40-485AZ-01_V (QFN, 40-Leads, Body 6x6mm, Pitch 0.5mm)
part A pins: 1 ZCD_EN# (in) "Enable Zero Current Detection", 2 VCIN (power) "Control Input Voltage", 3 NC "No Connect", 4 BOOT "Bootstrap Voltage", 6 GH "High Side FET Gate Access", 7 PHASE "Provides a return path for the high side driver of the internal IC. Place a high frequency ceramic capacitor of 0.1 uF to 1.0 uF from this pin to BOOT pin.", 8 NC "No Connect", 15 VSWH (power) "Switch Node Output", 29 VSWH (power) "Switch Node Output", 30 VSWH (power) "Switch Node Output", 31 VSWH (power) "Switch Node Output", 32 VSWH (power) "Switch Node Output", 33 VSWH (power) "Switch Node Output", 34 VSWH (power) "Switch Node Output", 35 VSWH (power) "Switch Node Output", 36 GL "Low Side FET Gate Access", 38 THWN (out) "Thermal Warning", 39 DISB# (in) "Output Disable Pin", 40 PWM (in) "PWM Drive Logic", 43 VSWH (power) "Switch Node Output"
part B pins: 5 CGND (power) "Control Signal Ground", 9 VIN (power) "Input Voltage", 10 VIN (power) "Input Voltage", 11 VIN (power) "Input Voltage", 12 VIN (power) "Input Voltage", 13 VIN (power) "Input Voltage", 14 VIN (power) "Input Voltage", 16 PGND (power) "Power Ground", 17 PGND (power) "Power Ground", 18 PGND (power) "Power Ground", 19 PGND (power) "Power Ground", 20 PGND (power) "Power Ground", 21 PGND (power) "Power Ground", 22 PGND (power) "Power Ground", 23 PGND (power) "Power Ground", 24 PGND (power) "Power Ground", 25 PGND (power) "Power Ground", 26 PGND (power) "Power Ground", 27 PGND (power) "Power Ground", 28 PGND (power) "Power Ground", 37 CGND (power) "Control Signal Ground", 41 CGND (power) "Control Signal Ground", 42 VIN (power) "Input Voltage"

## NCP81081MNTWG
designator U?
Integrated Driver and MOSFET, 40-Pin QFN, Pb-Free, Tape and Reel; Manufacturer: On Semiconductor; PartNumber: NCP81081MNTWG; DatasheetVersion: Rev. 1; PackageVersion: Rev. O, 01/2009; PackageReference: QFN-40-485AZ-01; Package Type: QFN-40; Packing: Tape and Reel; RoHS: Pb-Free; Mounting Technology: Surface Mount; ComponentLink1Description: Manufacturer URL; ComponentLink1URL: http://www.onsemi.com/; ComponentLink2Description: Datasheet; ComponentLink2URL: http://www.onsemi.cn/pub_link/Collateral/NCP81081-D.PDF; ComponentLink3Description: Package Specification; ComponentLink3URL: http://www.onsemi.com/pub_link/Collateral/485AZ.PDF
footprint ONSC-QFN-40-485AZ-01_V (QFN, 40-Leads, Body 6x6mm, Pitch 0.5mm)
part A pins: 1 ZCD_EN# (in) "Enable Zero Current Detection", 2 VCIN (power) "Control Input Voltage", 3 NC "No Connect", 4 BOOT "Bootstrap Voltage", 6 GH "High Side FET Gate Access", 7 PHASE "Provides a return path for the high side driver of the internal IC. Place a high frequency ceramic capacitor of 0.1 uF to 1.0 uF from this pin to BOOT pin.", 8 NC "No Connect", 15 VSWH (power) "Switch Node Output", 29 VSWH (power) "Switch Node Output", 30 VSWH (power) "Switch Node Output", 31 VSWH (power) "Switch Node Output", 32 VSWH (power) "Switch Node Output", 33 VSWH (power) "Switch Node Output", 34 VSWH (power) "Switch Node Output", 35 VSWH (power) "Switch Node Output", 36 GL "Low Side FET Gate Access", 38 THWN (out) "Thermal Warning", 39 DISB# (in) "Output Disable Pin", 40 PWM (in) "PWM Drive Logic", 43 VSWH (power) "Switch Node Output"
part B pins: 5 CGND (power) "Control Signal Ground", 9 VIN (power) "Input Voltage", 10 VIN (power) "Input Voltage", 11 VIN (power) "Input Voltage", 12 VIN (power) "Input Voltage", 13 VIN (power) "Input Voltage", 14 VIN (power) "Input Voltage", 16 PGND (power) "Power Ground", 17 PGND (power) "Power Ground", 18 PGND (power) "Power Ground", 19 PGND (power) "Power Ground", 20 PGND (power) "Power Ground", 21 PGND (power) "Power Ground", 22 PGND (power) "Power Ground", 23 PGND (power) "Power Ground", 24 PGND (power) "Power Ground", 25 PGND (power) "Power Ground", 26 PGND (power) "Power Ground", 27 PGND (power) "Power Ground", 28 PGND (power) "Power Ground", 37 CGND (power) "Control Signal Ground", 41 CGND (power) "Control Signal Ground", 42 VIN (power) "Input Voltage"

## NDD01N60-1G
designator Q?
N-Channel Power MOSFET, 600 V, 8.5 Ohm, 3-Pin IPAK, Pb-Free, Tube; Manufacturer: On Semiconductor; PartNumber: NDD01N60-1G; Channel Polarity: N Channel; Ciss Typ (pF): 160; Configuration: Single; Coss Typ (pF): 22; Crss Typ (pF): 4; PD Max (W): 46; Qrr Typ (nC): 288; V(BR)DSS Min (V): 600; VGS Max (V): 30; VGS(th) Max (V): 3.7; DatasheetVersion: Rev. 2; PackageVersion: Rev. C, 12/2010; PackageReference: IPAK-3-369D-01; PackageDescription: 3-Pin Flange Mount, Vertical Straight Lead, Body 6.54 x 2.285 mm, Pitch 2.29 mm; Package Type: DPAK-3, IPAK-4; Packing: Tube; RoHS: Pb-Free; Mounting Technology: Through Hole; Code_JEDEC: TO-251; ComponentLink1Description: Manufacturer URL; ComponentLink1URL: http://www.onsemi.com/; ComponentLink2Description: Datasheet; ComponentLink2URL: http://www.onsemi.cn/pub_link/Collateral/NDD01N60-D.PDF; ComponentLink3Description: Package Specification; ComponentLink3URL: http://www.onsemi.cn/pub_link/Collateral/369D.PDF
footprint ONSC-IPAK-3-369D-01 (FM, 3-Leads, Body 6.75x2.4mm, Pitch 2.29mm)
pins: 1 G, 2 D, 3 S

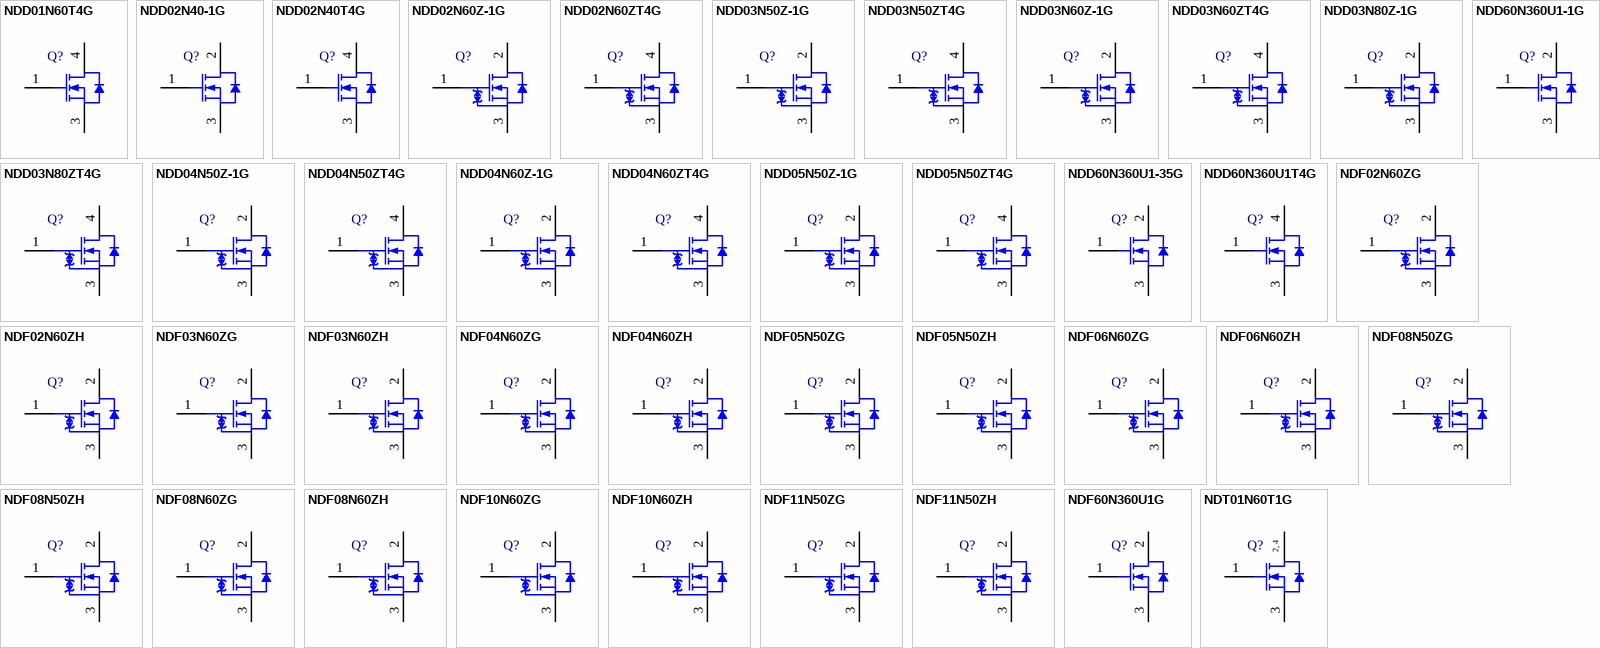
[diagram p8: symbols NDD01N60T4G to NDT01N60T1G]

## NDD01N60T4G
designator Q?
N-Channel Power MOSFET, 600 V, 8.5 Ohm, 3-Pin DPAK, Pb-Free, Tape and Reel; Manufacturer: On Semiconductor; PartNumber: NDD01N60T4G; Channel Polarity: N Channel; Ciss Typ (pF): 160; Configuration: Single; Coss Typ (pF): 22; Crss Typ (pF): 4; PD Max (W): 46; Qrr Typ (nC): 288; V(BR)DSS Min (V): 600; VGS Max (V): 30; VGS(th) Max (V): 3.7; DatasheetVersion: Rev. 2; PackageVersion: Rev. E, 02/2014; PackageReference: DPAK-3-369C-01; PackageDescription: 3-Pin Flange Mount, Body 6.54 x 6.095 mm, Pitch 2.29 mm; Package Type: DPAK-3, IPAK-4; Packing: Tape and Reel; RoHS: Pb-Free; Mounting Technology: Surface Mount; ComponentLink1Description: Manufacturer URL; ComponentLink1URL: http://www.onsemi.com/; ComponentLink2Description: Datasheet; ComponentLink2URL: http://www.onsemi.cn/pub_link/Collateral/NDD01N60-D.PDF; ComponentLink3Description: Package Specification; ComponentLink3URL: http://www.onsemi.cn/pub_link/Collateral/369C.PDF
footprint ONSC-DPAK-3-369C-01_V (DPAK, 3-Leads, Body 6.54x6.095mm, Pitch 2.29mm)
pins: 1 G, 3 S, 4 D

## NDD02N40-1G
designator Q?
N-Channel Power MOSFET, 400 V, 5.5 Ohm, 3-Pin IPAK, Pb-Free, Tube; Manufacturer: On Semiconductor; PartNumber: NDD02N40-1G; Channel Polarity: N Channel; Ciss Typ (pF): 121; Configuration: Single; Coss Typ (pF): 16; Crss Typ (pF): 3; PD Max (W): 39; Qrr Typ (nC): 260; V(BR)DSS Min (V): 400; VGS Max (V): 20; VGS(th) Max (V): 2; DatasheetVersion: Rev. 3; PackageVersion: Rev. C, 12/2010; PackageReference: IPAK-3-369D-01; PackageDescription: 3-Pin Flange Mount, Vertical Straight Lead, Body 6.54 x 2.285 mm, Pitch 2.29 mm; Supplier 1: Newark; Supplier Part Number 1: 72W2255; Supplier 2: Mouser; Supplier Part Number 2: 863-NDD02N40-1G; Package Type: SOT-223-4 / TO-261-4; Packing: Tube; RoHS: Pb-Free; Mounting Technology: Through Hole; Code_JEDEC: TO-251; ComponentLink1Description: Manufacturer URL; ComponentLink1URL: http://www.onsemi.com/; ComponentLink2Description: Datasheet; ComponentLink2URL: http://www.onsemi.com/pub_link/Collateral/NDD02N40-D.PDF; ComponentLink3Description: Package Specification; ComponentLink3URL: http://www.onsemi.cn/pub_link/Collateral/369D.PDF
footprint ONSC-IPAK-3-369D-01 (FM, 3-Leads, Body 6.75x2.4mm, Pitch 2.29mm)
pins: 1 G, 2 D, 3 S

## NDD02N40T4G
designator Q?
N-Channel Power MOSFET, 400 V, 5.5 Ohm, 3-Pin DPAK, Pb-Free, Tape and Reel; Manufacturer: On Semiconductor; PartNumber: NDD02N40T4G; Channel Polarity: N Channel; Ciss Typ (pF): 121; Configuration: Single; Coss Typ (pF): 16; Crss Typ (pF): 3; PD Max (W): 39; Qrr Typ (nC): 260; V(BR)DSS Min (V): 400; VGS Max (V): 20; VGS(th) Max (V): 2; DatasheetVersion: Rev. 3; PackageVersion: Rev. E, 02/2014; PackageReference: DPAK-3-369C-01; PackageDescription: 3-Pin Flange Mount, Body 6.54 x 6.095 mm, Pitch 2.29 mm; Supplier 1: Newark; Supplier Part Number 1: 84W8838; Supplier 2: Newark; Supplier Part Number 2: 72W2256; Supplier 3: Mouser; Supplier Part Number 3: 863-NDD02N40T4G; Package Type: SOT-223-4 / TO-261-4; Packing: Tape and Reel; RoHS: Pb-Free; Mounting Technology: Surface Mount; ComponentLink1Description: Manufacturer URL; ComponentLink1URL: http://www.onsemi.com/; ComponentLink2Description: Datasheet; ComponentLink2URL: http://www.onsemi.com/pub_link/Collateral/NDD02N40-D.PDF; ComponentLink3Description: Package Specification; ComponentLink3URL: http://www.onsemi.cn/pub_link/Collateral/369C.PDF
footprint ONSC-DPAK-3-369C-01_V (DPAK, 3-Leads, Body 6.54x6.095mm, Pitch 2.29mm)
pins: 1 G, 3 S, 4 D

## NDD02N60Z-1G
designator Q?
N-Channel Power MOSFET 600 V, 4.8 Ohm, 3-Pin IPAK, Pb-Free, Tube; Manufacturer: On Semiconductor; PartNumber: NDD02N60Z-1G; Channel Polarity: N Channel; Ciss Typ (pF): 274; Configuration: Single; Coss Typ (pF): 34; Crss Typ (pF): 7; PD Max (W): 57; Qrr Typ (nC): 700; V(BR)DSS Min (V): 600; VGS Max (V): 30; VGS(th) Max (V): 4.5; DatasheetVersion: Rev. 7; PackageVersion: Rev. C, 12/2010; PackageReference: IPAK-3-369D-01; PackageDescription: 3-Pin Flange Mount, Vertical Straight Lead, Body 6.54 x 2.285 mm, Pitch 2.29 mm; Package Type: DPAK-3, IPAK-4; Packing: Tube; RoHS: Pb-Free; Mounting Technology: Through Hole; Code_JEDEC: TO-251; ComponentLink1Description: Manufacturer URL; ComponentLink1URL: http://www.onsemi.com/; ComponentLink2Description: Datasheet; ComponentLink2URL: http://www.onsemi.cn/pub_link/Collateral/NDF02N60Z-D.PDF; ComponentLink3Description: Package Specification; ComponentLink3URL: http://www.onsemi.cn/pub_link/Collateral/369D.PDF
footprint ONSC-IPAK-3-369D-01 (FM, 3-Leads, Body 6.75x2.4mm, Pitch 2.29mm)
pins: 1 G, 2 D, 3 S

## NDD02N60ZT4G
designator Q?
N-Channel Power MOSFET 600 V, 4.8 Ohm, 3-Pin DPAK, Pb-Free, Tape and Reel; Manufacturer: On Semiconductor; PartNumber: NDD02N60ZT4G; Channel Polarity: N Channel; Ciss Typ (pF): 274; Configuration: Single; Coss Typ (pF): 34; Crss Typ (pF): 7; PD Max (W): 57; Qrr Typ (nC): 700; V(BR)DSS Min (V): 600; VGS Max (V): 30; VGS(th) Max (V): 4.5; DatasheetVersion: Rev. 7; PackageVersion: Rev. B, 06/2010; PackageReference: DPAK-3-369AA-01; PackageDescription: 3-Pin Flange Mount, Body 6.54 x 6.095 mm, Pitch 2.29 mm; Package Type: DPAK-3, IPAK-4; Packing: Tape and Reel; RoHS: Pb-Free; Mounting Technology: Surface Mount; ComponentLink1Description: Manufacturer URL; ComponentLink1URL: http://www.onsemi.com/; ComponentLink2Description: Datasheet; ComponentLink2URL: http://www.onsemi.cn/pub_link/Collateral/NDF02N60Z-D.PDF; ComponentLink3Description: Package Specification; ComponentLink3URL: http://www.onsemi.cn/pub_link/Collateral/369AA.PDF
footprint ONSC-DPAK-3-369AA-01_V (DPAK, 3-Leads, Body 6.54x6.095mm, Pitch 2.29mm)
pins: 1 G, 3 S, 4 D

## NDD03N50Z-1G
designator Q?
N-Channel Power MOSFET, 500 V, 3.3 Ohm, 3-Pin IPAK, Pb-Free, Tube; Manufacturer: On Semiconductor; PartNumber: NDD03N50Z-1G; Channel Polarity: N Channel; Ciss Typ (pF): 274; Configuration: Single; Coss Typ (pF): 38; Crss Typ (pF): 8; PD Max (W): 58; Qrr Typ (nC): 700; V(BR)DSS Min (V): 500; VGS Max (V): 30; VGS(th) Max (V): 4.5; DatasheetVersion: Rev. 1; PackageVersion: Rev. C, 12/2010; PackageReference: IPAK-3-369D-01; PackageDescription: 3-Pin Flange Mount, Vertical Straight Lead, Body 6.54 x 2.285 mm, Pitch 2.29 mm; Package Type: DPAK-3, IPAK-4; Packing: Tube; RoHS: Pb-Free; Mounting Technology: Through Hole; Code_JEDEC: TO-251; ComponentLink1Description: Manufacturer URL; ComponentLink1URL: http://www.onsemi.com/; ComponentLink2Description: Datasheet; ComponentLink2URL: http://www.onsemi.cn/pub_link/Collateral/NDD03N50Z-D.PDF; ComponentLink3Description: Package Specification; ComponentLink3URL: http://www.onsemi.cn/pub_link/Collateral/369D.PDF
footprint ONSC-IPAK-3-369D-01 (FM, 3-Leads, Body 6.75x2.4mm, Pitch 2.29mm)
pins: 1 G, 2 D, 3 S